# Altium footprint library passive components.PcbLib: 12 footprints
Each footprint in its own frame and in the unit in brackets; x right, y up, seen from the top. Pads: shape width x height; smd on the part's side, far side on the other; paste and mask are expansions set on the pad; w line width, h text height; cw(c..) or ccw(c..) is an arc to the next point about the centre after c.
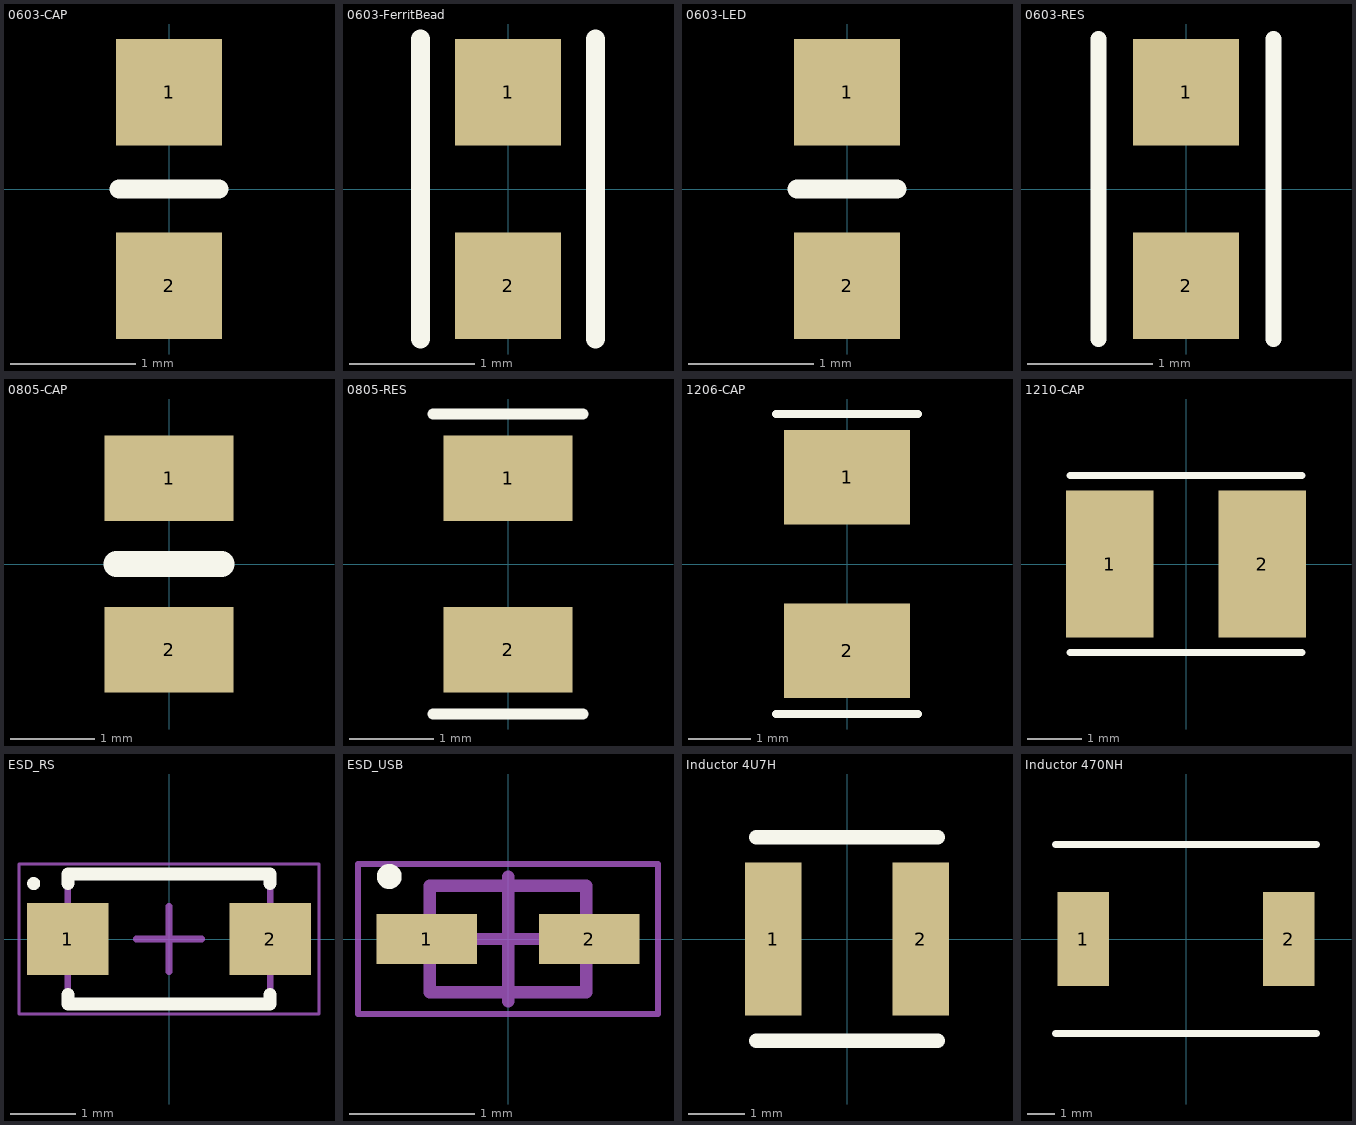
[diagram p0: the footprints below, top view; thin cyan lines are the x and y axes]

## 0603-CAP [mm]
pads (2):
  rect 0.85x0.85 smd: 1(0,0.775) 2(0,-0.775)
Top Overlay:
  lines w0.152: -0.4,0 0.4,0
3D body "capacitor 0603.step": height 0.9, standoff 0, extent -0.4,-0.8 0.4,0.8

## 0603-FerritBead [mm]
pads (2):
  rect 0.85x0.85 smd: 1(0,0.775) 2(0,-0.775)
Top Overlay:
  lines w0.152: -0.7,-1.2 -0.7,1.2 ; 0.7,-1.2 0.7,1.2
3D body: height 1, standoff 0, extent -0.4,-0.85 0.4,0.85

## 0603-LED [mm]
pads (2):
  rect 0.85x0.85 smd: 1(0,0.775) 2(0,-0.775)
Top Overlay:
  lines w0.152: -0.4,0 0.4,0
3D body: height 1.1, standoff 0, extent -0.212,-0.6 0.212,-0.05
3D body: height 1, standoff 0, extent -0.4,-0.8 0.4,0.8

## 0603-RES [mm]
pads (2):
  rect 0.85x0.85 smd: 1(0,0.775) 2(0,-0.775)
Top Overlay:
  lines w0.127: -0.7,-1.2 -0.7,1.2 ; 0.7,-1.2 0.7,1.2
3D body "0603.step": height 0.56, standoff 0, extent -0.4,-0.85 0.4,0.85

## 0805-CAP [mil]
pads (2):
  rect 60x40 smd: 1(0,40) 2(0,-40)
Top Overlay:
  lines w12: -24.6,0.01 24.6,0.01
3D body "capacitor 0805.step": height 35.43, standoff 0, extent -24.61,-39.36 24.6,39.38

## 0805-RES [mil]
pads (2):
  rect 60x40 smd: 1(0,40) 2(0,-40)
Top Overlay:
  lines w5: -35,-70 35,-70 ; -35,70 35,70
3D body "SW3dPS-0805 SMD Resistor.STEP": height 30.79, standoff 0, extent -23.6,-39.36 25.6,39.38

## 1206-CAP [mil]
pads (2):
  rect 80x60 smd mask+2: 1(0,55) 2(0,-55)
Top Overlay:
  lines w5: -45,-95 45,-95 ; -45,95 45,95
3D body "capacitor 1206.step": height 39.37, standoff 0, extent -31.49,-62.99 31.5,63

## 1210-CAP [mm]
height 0.5
pads (2):
  rect 1.6x2.7 smd: 1(-1.4,0) 2(1.4,0)
Top Overlay:
  lines w0.127: -2.125,-1.625 2.125,-1.625 ; -2.125,1.625 2.125,1.625
3D body "User Library-1210(3225M) Cap.step": height 1.7, standoff 0, extent -2,-1.219 2,1.27

## ESD_RS [mm] "ESD protector 3.3V"
height 1.1
pads (2):
  rect 1.25x1.1 smd: 1(-1.55,0) 2(1.55,0)
Top Overlay:
  circle w0.1: c-2.075,0.85 r0.05
  lines w0.2: -1.55,-0.85 -1.55,-1 1.55,-1 1.55,-0.85 ; -1.55,0.85 -1.55,1 1.55,1 1.55,0.85
Mechanical 13:
  lines w0.1: -1.55,-1 -1.55,1 1.55,1 1.55,-1 -1.55,-1
Mechanical 15:
  lines w0.05: -2.3,-1.15 -2.3,1.15 2.3,1.15 2.3,-1.15 -2.3,-1.15
  lines w0.1: -0.5,0 0.5,0 ; 0,-0.5 0,0.5
3D body: height 1.1, standoff 0, extent -1.55,-1 1.55,1

## ESD_USB [mm] "ESD protector 5V"
height 0.65
pads (2):
  rect 0.8x0.4 smd: 1(-0.65,0) 2(0.65,0)
Top Overlay:
  circle w0.1: c-0.95,0.5 r0.05
Mechanical 13:
  lines w0.1: -0.625,-0.425 -0.625,0.425 0.625,0.425 0.625,-0.425 -0.625,-0.425
Mechanical 15:
  lines w0.05: -1.2,-0.6 -1.2,0.6 1.2,0.6 1.2,-0.6 -1.2,-0.6
  lines w0.1: -0.5,0 0.5,0 ; 0,-0.5 0,0.5
3D body: height 0.65, standoff 0, extent -0.625,-0.425 0.625,0.425

## Inductor 4U7H [mm]
height 0.5
pads (2):
  rect 1x2.7 smd: 1(-1.3,0) 2(1.3,0)
Top Overlay:
  lines w0.254: -1.6,-1.8 1.6,-1.8 ; -1.6,1.8 1.6,1.8
3D body: height 1.5, standoff 0, extent -1.6,-1.6 1.6,1.6

## Inductor 470NH [mm]
height 0.5
pads (2):
  rect 1.85x3.4 smd: 1(-3.7,0) 2(3.7,0)
Top Overlay:
  lines w0.254: -4.7,-3.4 4.7,-3.4 ; -4.7,3.4 4.7,3.4
3D body: height 3, standoff 0.15, extent -3.65,-3.4 3.65,3.4